# Altium schematic symbol library motee_v2.SchLib: 4 symbols
Pins are listed as number, name and electrical type; pins without a type are passive.

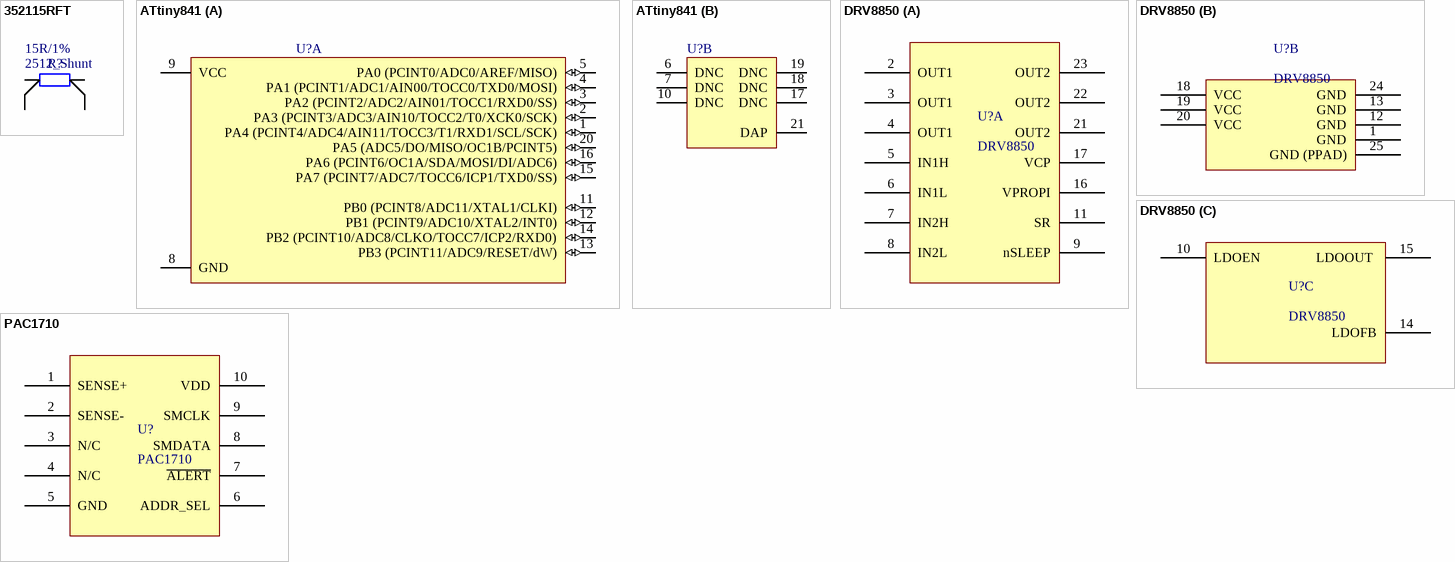
[diagram p0: symbols 352115RFT to PAC1710]

## 352115RFT
designator R?, comment Package: 2512_Shunt  (hidden comment: 15R/1%)
TE CONNECTIVITY  352115RFT  RESISTOR, 2512, 2W, 15R, 1%; Temperature Coefficient: ± 100ppm/°C; Manufacturer: TE CONNECTIVITY; ManufacturerPartNumber: 352115RFT; Power Rating: 2 W; Farnell: http://pl.farnell.com/te-connectivity/352115rft/resistor-2512-2w-15r-1/dp/2117454; Manufacturer's Datasheet: http://www.farnell.com/datasheets/1610601.pdf; Value: 15R/1%
footprint SMD_Resistor-shunt_2512 (SMD Shunt Resistor, Inch 2512, Metric 6332.)
pins: 1, 2, 3, 4

## ATtiny841
designator U?
8-bit AVR Microcontroller with 4/8K Bytes In-System  Programmable Flash; DatasheetVersion: revK, Oct-2010; PackageVersion: revA, Oct-2004; PackageReference: 20M1; PackageDescription: 20-pad, 4 x 4 x 0.8 mm Body, Lead Pitch 0.50 mm, 2.6 mm Exposed Pad, Micro Lead Frame Package (MLF); Code_JEDEC: MO-220WGGD-5; ComponentLink1Description: Manufacturer URL; ComponentLink1URL: http://www.atmel.com/; ComponentLink2Description: ATtiny24/44/84 Datasheet; ComponentLink2URL: http://www.atmel.com/Images/Atmel-8495-8-bit-AVR-Microcontrollers-ATtiny441-ATtiny841_Datasheet.pdf; ComponentLink3Description: ATtiny24/44/84 Summary; ComponentLink3URL: http://www.atmel.com/dyn/resources/prod_documents/8006S.pdf
footprint 20M1_N (QFN, 20-Leads, Body 4x4mm, Pitch 0.5mm, Thermal Pad 2.7x2.7mm, IPC Medium Density)
footprint 20M1_L (QFN, 20-Leads, Body 4x4mm, Pitch 0.5mm, Thermal Pad 2.7x2.7mm, IPC High Density)
footprint 20M1_M (QFN, 20-Leads, Body 4x4mm, Pitch 0.5mm, Thermal Pad 2.7x2.7mm, IPC Low Density)
part A pins: 1 PA4 (PCINT4/ADC4/AIN11/TOCC3/T1/RXD1/SCL/SCK) (io), 2 PA3 (PCINT3/ADC3/AIN10/TOCC2/T0/XCK0/SCK) (io), 3 PA2 (PCINT2/ADC2/AIN01/TOCC1/RXD0/SS) (io), 4 PA1 (PCINT1/ADC1/AIN00/TOCC0/TXD0/MOSI) (io), 5 PA0 (PCINT0/ADC0/AREF/MISO) (io), 8 GND (power), 9 VCC (power), 11 PB0 (PCINT8/ADC11/XTAL1/CLKI) (io), 12 PB1 (PCINT9/ADC10/XTAL2/INT0) (io), 13 PB3 (PCINT11/ADC9/RESET/dW) (io), 14 PB2 (PCINT10/ADC8/CLKO/TOCC7/ICP2/RXD0) (io), 15 PA7 (PCINT7/ADC7/TOCC6/ICP1/TXD0/SS) (io), 16 PA6 (PCINT6/OC1A/SDA/MOSI/DI/ADC6) (io), 20 PA5 (ADC5/DO/MISO/OC1B/PCINT5) (io)
part B pins: 6 DNC, 7 DNC, 10 DNC, 17 DNC, 18 DNC, 19 DNC, 21 DAP (power)

## DRV8850
designator U?
part A pins: 2 OUT1, 3 OUT1, 4 OUT1, 5 IN1H, 6 IN1L, 7 IN2H, 8 IN2L, 9 nSLEEP, 11 SR, 16 VPROPI, 17 VCP, 21 OUT2, 22 OUT2, 23 OUT2
part B pins: 1 GND, 12 GND, 13 GND, 18 VCC, 19 VCC, 20 VCC, 24 GND, 25 GND (PPAD)
part C pins: 10 LDOEN, 14 LDOFB, 15 LDOOUT 

## PAC1710
designator U?
pins: 1 SENSE+, 2 SENSE-, 3 N/C, 4 N/C, 5 GND, 6 ADDR_SEL, 7 ~{ALERT}, 8 SMDATA, 9 SMCLK, 10 VDD